# Altium footprint library VAR_PITCH5MM.PcbLib: 1 footprints
Each footprint in its own frame and in the unit in brackets; x right, y up, seen from the top. Pads: shape width x height; smd on the part's side, far side on the other; paste and mask are expansions set on the pad; w line width, h text height; cw(c..) or ccw(c..) is an arc to the next point about the centre after c.
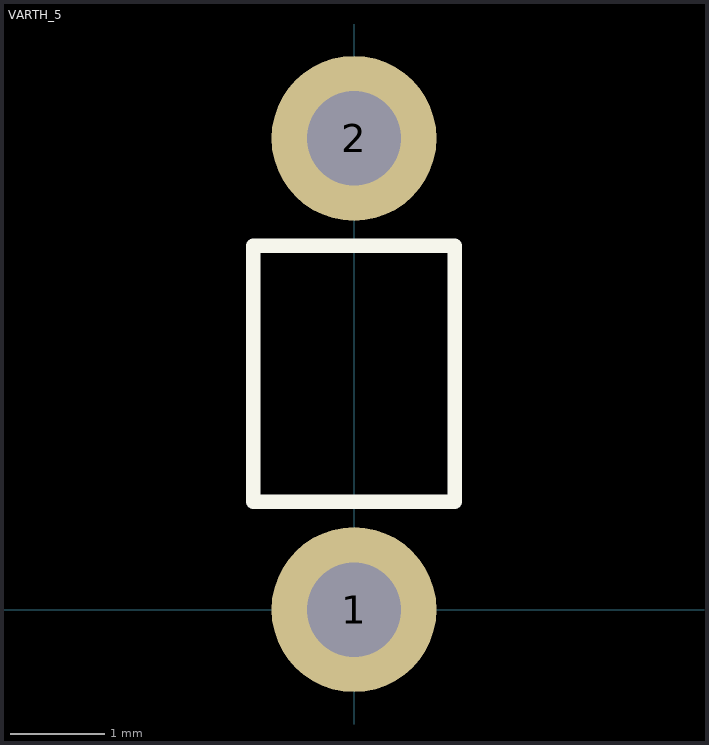
[diagram p0: the footprint, top view; thin cyan lines are the x and y axes]

## VARTH_5 [mm] "Diam 5mm"
pads (2):
  round 1.75 hole 1: 1(0,0) 2(0,5)
Top Overlay:
  lines w0.152: -1.07,1.143 -1.07,3.861 1.07,3.861 1.07,1.143 -1.07,1.143
3D body "User Library-Warystor_5mm.STEP": height 10.5, standoff -2.07, extent -1.275,-1.485 1.235,6.515